# EAGLE library part ARDUINO_MEGA (library roboSim_Parts)
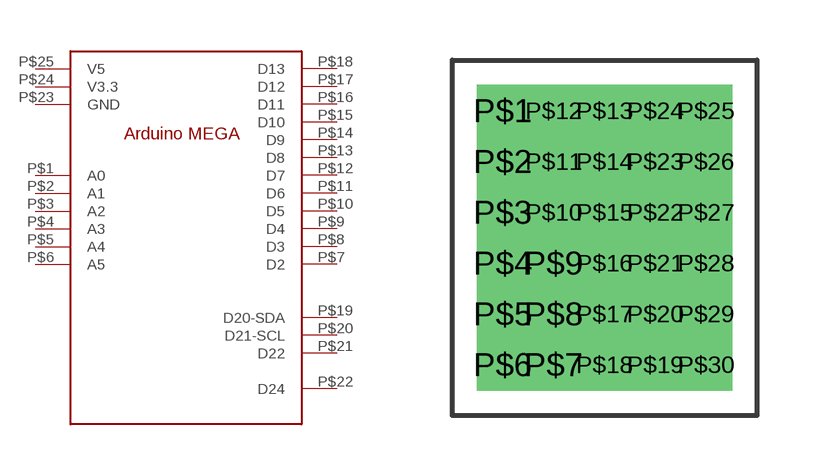
[diagram p0: symbol with the pads of DUMMY; footprint DUMMY]

Designator prefix -

## ARDUINO_MEGA  [DUMMY]
P$1  A0
P$2  A1
P$3  A2
P$4  A3
P$5  A4
P$6  A5
P$7  D2
P$8  D3
P$9  D4
P$10  D5
P$11  D6
P$12  D7
P$13  D8
P$14  D9
P$15  D10
P$16  D11
P$17  D12
P$18  D13
P$19  D20-SDA
P$20  D21-SCL
P$21  D22
P$22  D24
P$23  GND
P$24  V3.3
P$25  V5

## Footprint DUMMY (pad centres in mm)
drill 0.8 square: P$1 1.27,7.62; P$2 1.27,6.35; P$3 1.27,5.08; P$4 1.27,3.81; P$5 1.27,2.54; P$6 1.27,1.27; P$7 2.54,1.27; P$8 2.54,2.54; P$9 2.54,3.81; P$10 2.54,5.08; P$11 2.54,6.35; P$12 2.54,7.62; P$13 3.81,7.62; P$14 3.81,6.35; P$15 3.81,5.08; P$16 3.81,3.81; P$17 3.81,2.54; P$18 3.81,1.27; P$19 5.08,1.27; P$20 5.08,2.54; P$21 5.08,3.81; P$22 5.08,5.08; P$23 5.08,6.35; P$24 5.08,7.62; P$25 6.35,7.62; P$26 6.35,6.35; P$27 6.35,5.08; P$28 6.35,3.81; P$29 6.35,2.54; P$30 6.35,1.27